# Altium integrated library Cypress PLD MAX EPLD.IntLib: 163 symbols (part 1 of 6)
Pins are listed as number, name and electrical type; pins without a type are passive.

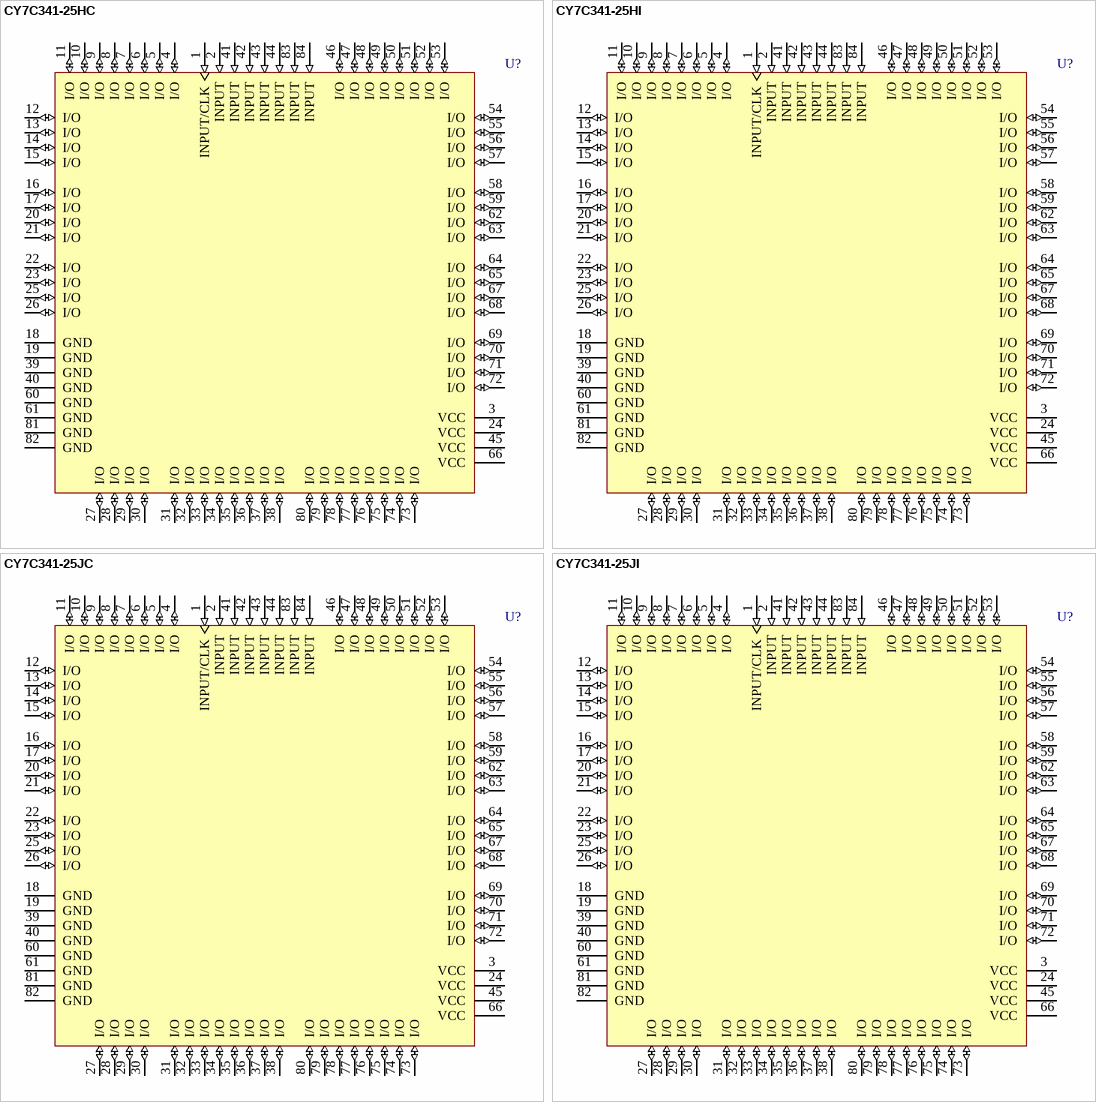
[diagram p0: symbols CY7C341-25HC to CY7C341-25JI]

## CY7C341-25HC
designator U?
192-Macrocell MAX EPLD; Published: 11-Dec-2002; LatestRevisionDate: 13-Apr-2006; LatestRevisionNote: IPC-7351 Footprint Added.; DatasheetVersion: 19-Jul-2000; PackageVersion: 8-Apr-2002; PackageReference: H84; Publisher: Altium Limited; PackageDescription: 84-Pin Window Leaded Chip Carrier 1.27 mm Pitch; ComponentLink1Description: Manufacturer Link; ComponentLink1URL: http://www.cypress.com/
footprint H84_N (Leaded Chip Carrier, 84-Leads, Body 29.2x29.2mm, Pitch 1.27mm, IPC Medium Density)
footprint H84_L (Leaded Chip Carrier, 84-Leads, Body 29.2x29.2mm, Pitch 1.27mm, IPC High Density)
footprint H84_M (Leaded Chip Carrier, 84-Leads, Body 29.2x29.2mm, Pitch 1.27mm, IPC Low Density)
3D model CY7C341-H84 (84-Pin Window Leaded Chip Carrier 1.27 mm Pitch)
pins: 1 INPUT/CLK (in), 2 INPUT (in), 3 VCC (power), 4 I/O (io), 5 I/O (io), 6 I/O (io), 7 I/O (io), 8 I/O (io), 9 I/O (io), 10 I/O (io), 11 I/O (io), 12 I/O (io), 13 I/O (io), 14 I/O (io), 15 I/O (io), 16 I/O (io), 17 I/O (io), 18 GND (power), 19 GND (power), 20 I/O (io), 21 I/O (io), 22 I/O (io), 23 I/O (io), 24 VCC (power), 25 I/O (io), 26 I/O (io), 27 I/O (io), 28 I/O (io), 29 I/O (io), 30 I/O (io), 31 I/O (io), 32 I/O (io), 33 I/O (io), 34 I/O (io), 35 I/O (io), 36 I/O (io), 37 I/O (io), 38 I/O (io), 39 GND (power), 40 GND (power), 41 INPUT (in), 42 INPUT (in), 43 INPUT (in), 44 INPUT (in), 45 VCC (power), 46 I/O (io), 47 I/O (io), 48 I/O (io), 49 I/O (io), 50 I/O (io), 51 I/O (io), 52 I/O (io), 53 I/O (io), 54 I/O (io), 55 I/O (io), 56 I/O (io), 57 I/O (io), 58 I/O (io), 59 I/O (io), 60 GND (power), 61 GND (power), 62 I/O (io), 63 I/O (io), 64 I/O (io), 65 I/O (io), 66 VCC (power), 67 I/O (io), 68 I/O (io), 69 I/O (io), 70 I/O (io), 71 I/O (io), 72 I/O (io), 73 I/O (io), 74 I/O (io), 75 I/O (io), 76 I/O (io), 77 I/O (io), 78 I/O (io), 79 I/O (io), 80 I/O (io), 81 GND (power), 82 GND (power), 83 INPUT (in), 84 INPUT (in)

## CY7C341-25HI
designator U?
192-Macrocell MAX EPLD; Published: 11-Dec-2002; LatestRevisionDate: 13-Apr-2006; LatestRevisionNote: IPC-7351 Footprint Added.; DatasheetVersion: 19-Jul-2000; PackageVersion: 8-Apr-2002; PackageReference: H84; Publisher: Altium Limited; PackageDescription: 84-Pin Window Leaded Chip Carrier 1.27 mm Pitch; ComponentLink1Description: Manufacturer Link; ComponentLink1URL: http://www.cypress.com/
footprint H84_N (Leaded Chip Carrier, 84-Leads, Body 29.2x29.2mm, Pitch 1.27mm, IPC Medium Density)
footprint H84_L (Leaded Chip Carrier, 84-Leads, Body 29.2x29.2mm, Pitch 1.27mm, IPC High Density)
footprint H84_M (Leaded Chip Carrier, 84-Leads, Body 29.2x29.2mm, Pitch 1.27mm, IPC Low Density)
3D model CY7C341-H84 (84-Pin Window Leaded Chip Carrier 1.27 mm Pitch)
pins: 1 INPUT/CLK (in), 2 INPUT (in), 3 VCC (power), 4 I/O (io), 5 I/O (io), 6 I/O (io), 7 I/O (io), 8 I/O (io), 9 I/O (io), 10 I/O (io), 11 I/O (io), 12 I/O (io), 13 I/O (io), 14 I/O (io), 15 I/O (io), 16 I/O (io), 17 I/O (io), 18 GND (power), 19 GND (power), 20 I/O (io), 21 I/O (io), 22 I/O (io), 23 I/O (io), 24 VCC (power), 25 I/O (io), 26 I/O (io), 27 I/O (io), 28 I/O (io), 29 I/O (io), 30 I/O (io), 31 I/O (io), 32 I/O (io), 33 I/O (io), 34 I/O (io), 35 I/O (io), 36 I/O (io), 37 I/O (io), 38 I/O (io), 39 GND (power), 40 GND (power), 41 INPUT (in), 42 INPUT (in), 43 INPUT (in), 44 INPUT (in), 45 VCC (power), 46 I/O (io), 47 I/O (io), 48 I/O (io), 49 I/O (io), 50 I/O (io), 51 I/O (io), 52 I/O (io), 53 I/O (io), 54 I/O (io), 55 I/O (io), 56 I/O (io), 57 I/O (io), 58 I/O (io), 59 I/O (io), 60 GND (power), 61 GND (power), 62 I/O (io), 63 I/O (io), 64 I/O (io), 65 I/O (io), 66 VCC (power), 67 I/O (io), 68 I/O (io), 69 I/O (io), 70 I/O (io), 71 I/O (io), 72 I/O (io), 73 I/O (io), 74 I/O (io), 75 I/O (io), 76 I/O (io), 77 I/O (io), 78 I/O (io), 79 I/O (io), 80 I/O (io), 81 GND (power), 82 GND (power), 83 INPUT (in), 84 INPUT (in)

## CY7C341-25JC
designator U?
192-Macrocell MAX EPLD; Published: 11-Dec-2002; LatestRevisionDate: 13-Apr-2006; LatestRevisionNote: IPC-7351 Footprint Added.; DatasheetVersion: 19-Jul-2000; PackageVersion: Mar-2001; PackageReference: J83; Publisher: Altium Limited; PackageDescription: 84-Pin Plastic Leaded Chip Carrier 1.27 mm Pitch; Code_IPC: PLCC-84; ComponentLink1Description: Manufacturer Link; ComponentLink1URL: http://www.cypress.com/
footprint J83_N (Leaded Chip Carrier, 84-Leads, Body 29.3x29.3mm, Pitch 1.27mm, IPC Medium Density)
footprint J83_L (Leaded Chip Carrier, 84-Leads, Body 29.3x29.3mm, Pitch 1.27mm, IPC High Density)
footprint J83_M (Leaded Chip Carrier, 84-Leads, Body 29.3x29.3mm, Pitch 1.27mm, IPC Low Density)
3D model CY7C341-J83 (84-Pin Plastic Leaded Chip Carrier 1.27 mm Pitch)
pins: 1 INPUT/CLK (in), 2 INPUT (in), 3 VCC (power), 4 I/O (io), 5 I/O (io), 6 I/O (io), 7 I/O (io), 8 I/O (io), 9 I/O (io), 10 I/O (io), 11 I/O (io), 12 I/O (io), 13 I/O (io), 14 I/O (io), 15 I/O (io), 16 I/O (io), 17 I/O (io), 18 GND (power), 19 GND (power), 20 I/O (io), 21 I/O (io), 22 I/O (io), 23 I/O (io), 24 VCC (power), 25 I/O (io), 26 I/O (io), 27 I/O (io), 28 I/O (io), 29 I/O (io), 30 I/O (io), 31 I/O (io), 32 I/O (io), 33 I/O (io), 34 I/O (io), 35 I/O (io), 36 I/O (io), 37 I/O (io), 38 I/O (io), 39 GND (power), 40 GND (power), 41 INPUT (in), 42 INPUT (in), 43 INPUT (in), 44 INPUT (in), 45 VCC (power), 46 I/O (io), 47 I/O (io), 48 I/O (io), 49 I/O (io), 50 I/O (io), 51 I/O (io), 52 I/O (io), 53 I/O (io), 54 I/O (io), 55 I/O (io), 56 I/O (io), 57 I/O (io), 58 I/O (io), 59 I/O (io), 60 GND (power), 61 GND (power), 62 I/O (io), 63 I/O (io), 64 I/O (io), 65 I/O (io), 66 VCC (power), 67 I/O (io), 68 I/O (io), 69 I/O (io), 70 I/O (io), 71 I/O (io), 72 I/O (io), 73 I/O (io), 74 I/O (io), 75 I/O (io), 76 I/O (io), 77 I/O (io), 78 I/O (io), 79 I/O (io), 80 I/O (io), 81 GND (power), 82 GND (power), 83 INPUT (in), 84 INPUT (in)

## CY7C341-25JI
designator U?
192-Macrocell MAX EPLD; Published: 11-Dec-2002; LatestRevisionDate: 13-Apr-2006; LatestRevisionNote: IPC-7351 Footprint Added.; DatasheetVersion: 19-Jul-2000; PackageVersion: Mar-2001; PackageReference: J83; Publisher: Altium Limited; PackageDescription: 84-Pin Plastic Leaded Chip Carrier 1.27 mm Pitch; Code_IPC: PLCC-84; ComponentLink1Description: Manufacturer Link; ComponentLink1URL: http://www.cypress.com/
footprint J83_N (Leaded Chip Carrier, 84-Leads, Body 29.3x29.3mm, Pitch 1.27mm, IPC Medium Density)
footprint J83_L (Leaded Chip Carrier, 84-Leads, Body 29.3x29.3mm, Pitch 1.27mm, IPC High Density)
footprint J83_M (Leaded Chip Carrier, 84-Leads, Body 29.3x29.3mm, Pitch 1.27mm, IPC Low Density)
3D model CY7C341-J83 (84-Pin Plastic Leaded Chip Carrier 1.27 mm Pitch)
pins: 1 INPUT/CLK (in), 2 INPUT (in), 3 VCC (power), 4 I/O (io), 5 I/O (io), 6 I/O (io), 7 I/O (io), 8 I/O (io), 9 I/O (io), 10 I/O (io), 11 I/O (io), 12 I/O (io), 13 I/O (io), 14 I/O (io), 15 I/O (io), 16 I/O (io), 17 I/O (io), 18 GND (power), 19 GND (power), 20 I/O (io), 21 I/O (io), 22 I/O (io), 23 I/O (io), 24 VCC (power), 25 I/O (io), 26 I/O (io), 27 I/O (io), 28 I/O (io), 29 I/O (io), 30 I/O (io), 31 I/O (io), 32 I/O (io), 33 I/O (io), 34 I/O (io), 35 I/O (io), 36 I/O (io), 37 I/O (io), 38 I/O (io), 39 GND (power), 40 GND (power), 41 INPUT (in), 42 INPUT (in), 43 INPUT (in), 44 INPUT (in), 45 VCC (power), 46 I/O (io), 47 I/O (io), 48 I/O (io), 49 I/O (io), 50 I/O (io), 51 I/O (io), 52 I/O (io), 53 I/O (io), 54 I/O (io), 55 I/O (io), 56 I/O (io), 57 I/O (io), 58 I/O (io), 59 I/O (io), 60 GND (power), 61 GND (power), 62 I/O (io), 63 I/O (io), 64 I/O (io), 65 I/O (io), 66 VCC (power), 67 I/O (io), 68 I/O (io), 69 I/O (io), 70 I/O (io), 71 I/O (io), 72 I/O (io), 73 I/O (io), 74 I/O (io), 75 I/O (io), 76 I/O (io), 77 I/O (io), 78 I/O (io), 79 I/O (io), 80 I/O (io), 81 GND (power), 82 GND (power), 83 INPUT (in), 84 INPUT (in)

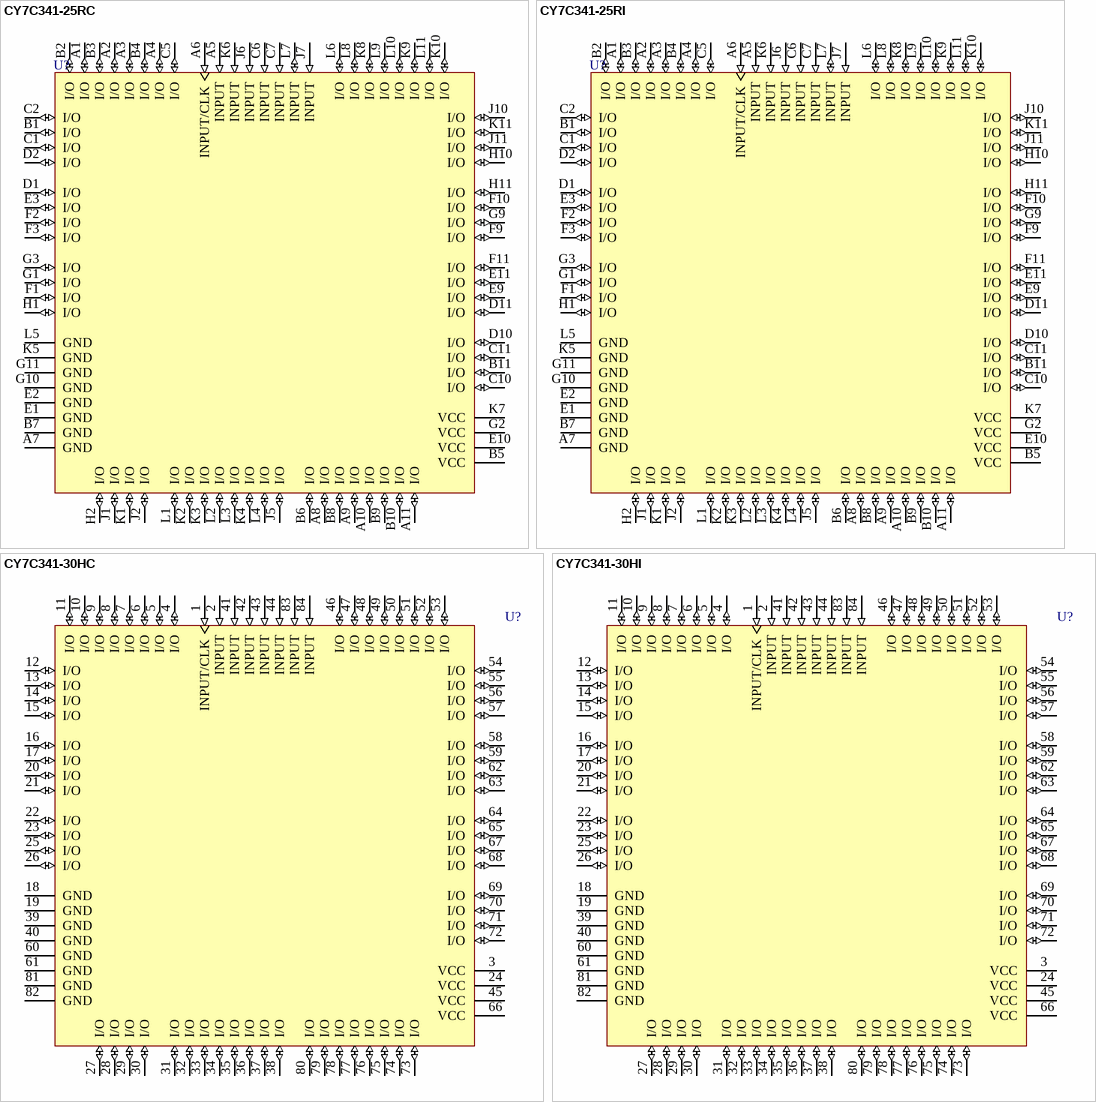
[diagram p1: symbols CY7C341-25RC to CY7C341-30HI]

## CY7C341-25RC
designator U?
192-Macrocell MAX EPLD; Published: 11-Dec-2002; LatestRevisionDate: 04-Mar-2005; LatestRevisionNote: Stylized 3D Model Added.; DatasheetVersion: 19-Jul-2000; PackageVersion: Dec-2001; PackageReference: R84; Publisher: Altium Limited; PackageDescription: 84-Pin Ceramic Window Pin Grid Array 2.54 mm Pitch; ComponentLink1Description: Manufacturer Link; ComponentLink1URL: http://www.cypress.com/
footprint R84 (PGA, 84-Leads, Body 28x28mm, Pitch 2.54mm)
3D model CY7C341-R84 (84-Pin Ceramic Window Pin Grid Array 2.54 mm Pitch)
pins: A1 I/O (io), A2 I/O (io), A3 I/O (io), A4 I/O (io), A5 INPUT (in), A6 INPUT/CLK (in), A7 GND (power), A8 I/O (io), A9 I/O (io), A10 I/O (io), A11 I/O (io), B1 I/O (io), B2 I/O (io), B3 I/O (io), B4 I/O (io), B5 VCC (power), B6 I/O (io), B7 GND (power), B8 I/O (io), B9 I/O (io), B10 I/O (io), B11 I/O (io), C1 I/O (io), C2 I/O (io), C5 I/O (io), C6 INPUT (in), C7 INPUT (in), C10 I/O (io), C11 I/O (io), D1 I/O (io), D2 I/O (io), D10 I/O (io), D11 I/O (io), E1 GND (power), E2 GND (power), E3 I/O (io), E9 I/O (io), E10 VCC (power), E11 I/O (io), F1 I/O (io), F2 I/O (io), F3 I/O (io), F9 I/O (io), F10 I/O (io), F11 I/O (io), G1 I/O (io), G2 VCC (power), G3 I/O (io), G9 I/O (io), G10 GND (power), G11 GND (power), H1 I/O (io), H2 I/O (io), H10 I/O (io), H11 I/O (io), J1 I/O (io), J2 I/O (io), J5 I/O (io), J6 INPUT (in), J7 INPUT (in), J10 I/O (io), J11 I/O (io), K1 I/O (io), K2 I/O (io), K3 I/O (io), K4 I/O (io), K5 GND (power), K6 INPUT (in), K7 VCC (power), K8 I/O (io), K9 I/O (io), K10 I/O (io), K11 I/O (io), L1 I/O (io), L2 I/O (io), L3 I/O (io), L4 I/O (io), L5 GND (power), L6 I/O (io), L7 INPUT (io), L8 I/O (io), L9 I/O (io), L10 I/O (io), L11 I/O (io)

## CY7C341-25RI
designator U?
192-Macrocell MAX EPLD; Published: 11-Dec-2002; LatestRevisionDate: 04-Mar-2005; LatestRevisionNote: Stylized 3D Model Added.; DatasheetVersion: 19-Jul-2000; PackageVersion: Dec-2001; PackageReference: R84; Publisher: Altium Limited; PackageDescription: 84-Pin Ceramic Window Pin Grid Array 2.54 mm Pitch; ComponentLink1Description: Manufacturer Link; ComponentLink1URL: http://www.cypress.com/
footprint R84 (PGA, 84-Leads, Body 28x28mm, Pitch 2.54mm)
3D model CY7C341-R84 (84-Pin Ceramic Window Pin Grid Array 2.54 mm Pitch)
pins: A1 I/O (io), A2 I/O (io), A3 I/O (io), A4 I/O (io), A5 INPUT (in), A6 INPUT/CLK (in), A7 GND (power), A8 I/O (io), A9 I/O (io), A10 I/O (io), A11 I/O (io), B1 I/O (io), B2 I/O (io), B3 I/O (io), B4 I/O (io), B5 VCC (power), B6 I/O (io), B7 GND (power), B8 I/O (io), B9 I/O (io), B10 I/O (io), B11 I/O (io), C1 I/O (io), C2 I/O (io), C5 I/O (io), C6 INPUT (in), C7 INPUT (in), C10 I/O (io), C11 I/O (io), D1 I/O (io), D2 I/O (io), D10 I/O (io), D11 I/O (io), E1 GND (power), E2 GND (power), E3 I/O (io), E9 I/O (io), E10 VCC (power), E11 I/O (io), F1 I/O (io), F2 I/O (io), F3 I/O (io), F9 I/O (io), F10 I/O (io), F11 I/O (io), G1 I/O (io), G2 VCC (power), G3 I/O (io), G9 I/O (io), G10 GND (power), G11 GND (power), H1 I/O (io), H2 I/O (io), H10 I/O (io), H11 I/O (io), J1 I/O (io), J2 I/O (io), J5 I/O (io), J6 INPUT (in), J7 INPUT (in), J10 I/O (io), J11 I/O (io), K1 I/O (io), K2 I/O (io), K3 I/O (io), K4 I/O (io), K5 GND (power), K6 INPUT (in), K7 VCC (power), K8 I/O (io), K9 I/O (io), K10 I/O (io), K11 I/O (io), L1 I/O (io), L2 I/O (io), L3 I/O (io), L4 I/O (io), L5 GND (power), L6 I/O (io), L7 INPUT (io), L8 I/O (io), L9 I/O (io), L10 I/O (io), L11 I/O (io)

## CY7C341-30HC
designator U?
192-Macrocell MAX EPLD; Published: 11-Dec-2002; LatestRevisionDate: 13-Apr-2006; LatestRevisionNote: IPC-7351 Footprint Added.; DatasheetVersion: 19-Jul-2000; PackageVersion: 8-Apr-2002; PackageReference: H84; Publisher: Altium Limited; PackageDescription: 84-Pin Window Leaded Chip Carrier 1.27 mm Pitch; ComponentLink1Description: Manufacturer Link; ComponentLink1URL: http://www.cypress.com/
footprint H84_N (Leaded Chip Carrier, 84-Leads, Body 29.2x29.2mm, Pitch 1.27mm, IPC Medium Density)
footprint H84_L (Leaded Chip Carrier, 84-Leads, Body 29.2x29.2mm, Pitch 1.27mm, IPC High Density)
footprint H84_M (Leaded Chip Carrier, 84-Leads, Body 29.2x29.2mm, Pitch 1.27mm, IPC Low Density)
3D model CY7C341-H84 (84-Pin Window Leaded Chip Carrier 1.27 mm Pitch)
pins: 1 INPUT/CLK (in), 2 INPUT (in), 3 VCC (power), 4 I/O (io), 5 I/O (io), 6 I/O (io), 7 I/O (io), 8 I/O (io), 9 I/O (io), 10 I/O (io), 11 I/O (io), 12 I/O (io), 13 I/O (io), 14 I/O (io), 15 I/O (io), 16 I/O (io), 17 I/O (io), 18 GND (power), 19 GND (power), 20 I/O (io), 21 I/O (io), 22 I/O (io), 23 I/O (io), 24 VCC (power), 25 I/O (io), 26 I/O (io), 27 I/O (io), 28 I/O (io), 29 I/O (io), 30 I/O (io), 31 I/O (io), 32 I/O (io), 33 I/O (io), 34 I/O (io), 35 I/O (io), 36 I/O (io), 37 I/O (io), 38 I/O (io), 39 GND (power), 40 GND (power), 41 INPUT (in), 42 INPUT (in), 43 INPUT (in), 44 INPUT (in), 45 VCC (power), 46 I/O (io), 47 I/O (io), 48 I/O (io), 49 I/O (io), 50 I/O (io), 51 I/O (io), 52 I/O (io), 53 I/O (io), 54 I/O (io), 55 I/O (io), 56 I/O (io), 57 I/O (io), 58 I/O (io), 59 I/O (io), 60 GND (power), 61 GND (power), 62 I/O (io), 63 I/O (io), 64 I/O (io), 65 I/O (io), 66 VCC (power), 67 I/O (io), 68 I/O (io), 69 I/O (io), 70 I/O (io), 71 I/O (io), 72 I/O (io), 73 I/O (io), 74 I/O (io), 75 I/O (io), 76 I/O (io), 77 I/O (io), 78 I/O (io), 79 I/O (io), 80 I/O (io), 81 GND (power), 82 GND (power), 83 INPUT (in), 84 INPUT (in)

## CY7C341-30HI
designator U?
192-Macrocell MAX EPLD; Published: 11-Dec-2002; LatestRevisionDate: 13-Apr-2006; LatestRevisionNote: IPC-7351 Footprint Added.; DatasheetVersion: 19-Jul-2000; PackageVersion: 8-Apr-2002; PackageReference: H84; Publisher: Altium Limited; PackageDescription: 84-Pin Window Leaded Chip Carrier 1.27 mm Pitch; ComponentLink1Description: Manufacturer Link; ComponentLink1URL: http://www.cypress.com/
footprint H84_N (Leaded Chip Carrier, 84-Leads, Body 29.2x29.2mm, Pitch 1.27mm, IPC Medium Density)
footprint H84_L (Leaded Chip Carrier, 84-Leads, Body 29.2x29.2mm, Pitch 1.27mm, IPC High Density)
footprint H84_M (Leaded Chip Carrier, 84-Leads, Body 29.2x29.2mm, Pitch 1.27mm, IPC Low Density)
3D model CY7C341-H84 (84-Pin Window Leaded Chip Carrier 1.27 mm Pitch)
pins: 1 INPUT/CLK (in), 2 INPUT (in), 3 VCC (power), 4 I/O (io), 5 I/O (io), 6 I/O (io), 7 I/O (io), 8 I/O (io), 9 I/O (io), 10 I/O (io), 11 I/O (io), 12 I/O (io), 13 I/O (io), 14 I/O (io), 15 I/O (io), 16 I/O (io), 17 I/O (io), 18 GND (power), 19 GND (power), 20 I/O (io), 21 I/O (io), 22 I/O (io), 23 I/O (io), 24 VCC (power), 25 I/O (io), 26 I/O (io), 27 I/O (io), 28 I/O (io), 29 I/O (io), 30 I/O (io), 31 I/O (io), 32 I/O (io), 33 I/O (io), 34 I/O (io), 35 I/O (io), 36 I/O (io), 37 I/O (io), 38 I/O (io), 39 GND (power), 40 GND (power), 41 INPUT (in), 42 INPUT (in), 43 INPUT (in), 44 INPUT (in), 45 VCC (power), 46 I/O (io), 47 I/O (io), 48 I/O (io), 49 I/O (io), 50 I/O (io), 51 I/O (io), 52 I/O (io), 53 I/O (io), 54 I/O (io), 55 I/O (io), 56 I/O (io), 57 I/O (io), 58 I/O (io), 59 I/O (io), 60 GND (power), 61 GND (power), 62 I/O (io), 63 I/O (io), 64 I/O (io), 65 I/O (io), 66 VCC (power), 67 I/O (io), 68 I/O (io), 69 I/O (io), 70 I/O (io), 71 I/O (io), 72 I/O (io), 73 I/O (io), 74 I/O (io), 75 I/O (io), 76 I/O (io), 77 I/O (io), 78 I/O (io), 79 I/O (io), 80 I/O (io), 81 GND (power), 82 GND (power), 83 INPUT (in), 84 INPUT (in)

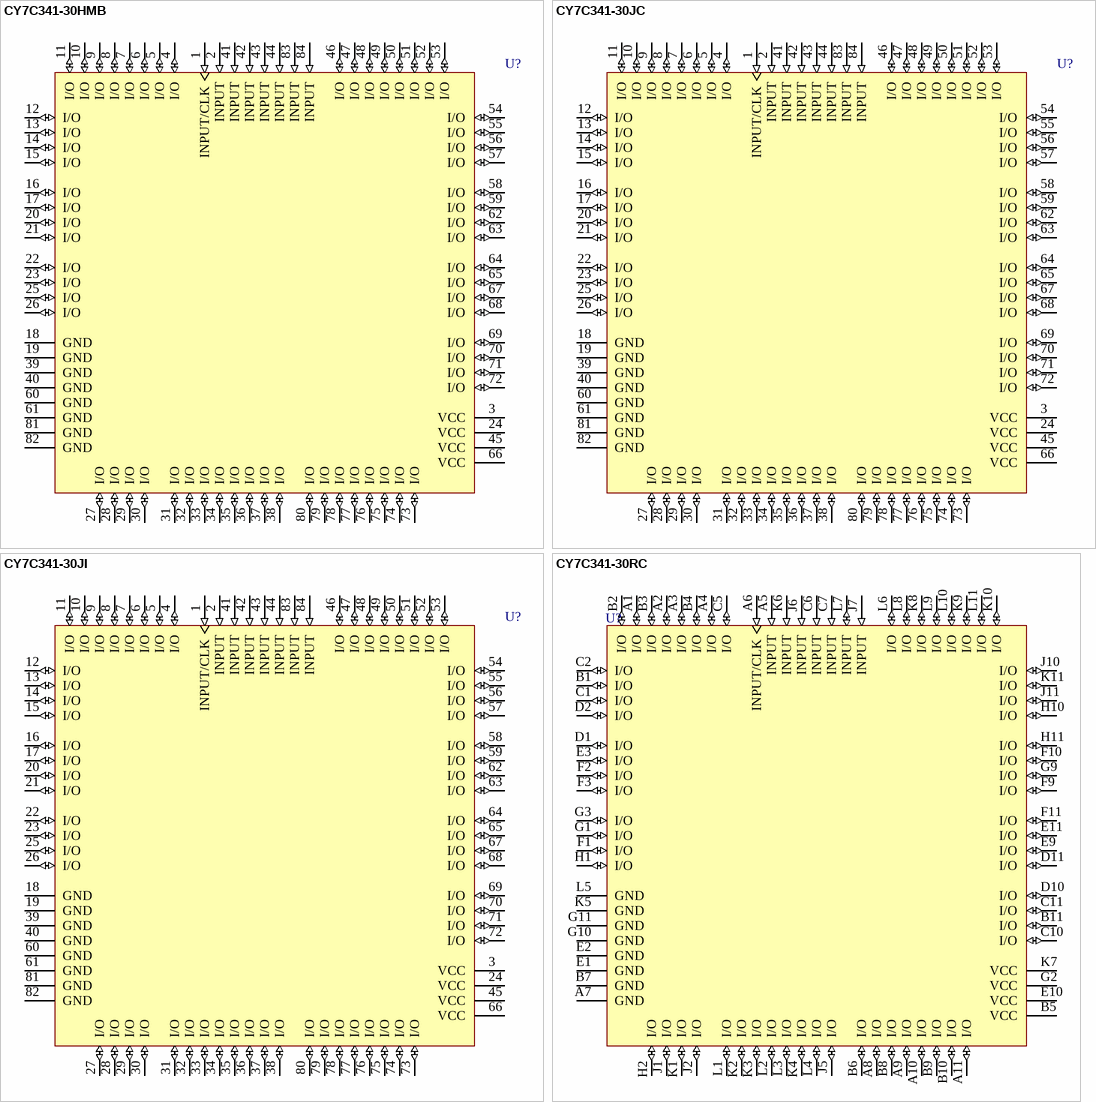
[diagram p2: symbols CY7C341-30HMB to CY7C341-30RC]

## CY7C341-30HMB
designator U?
192-Macrocell MAX EPLD; Published: 11-Dec-2002; LatestRevisionDate: 13-Apr-2006; LatestRevisionNote: IPC-7351 Footprint Added.; DatasheetVersion: 19-Jul-2000; PackageVersion: 8-Apr-2002; PackageReference: H84; Publisher: Altium Limited; PackageDescription: 84-Pin Window Leaded Chip Carrier 1.27 mm Pitch; ComponentLink1Description: Manufacturer Link; ComponentLink1URL: http://www.cypress.com/
footprint H84_N (Leaded Chip Carrier, 84-Leads, Body 29.2x29.2mm, Pitch 1.27mm, IPC Medium Density)
footprint H84_L (Leaded Chip Carrier, 84-Leads, Body 29.2x29.2mm, Pitch 1.27mm, IPC High Density)
footprint H84_M (Leaded Chip Carrier, 84-Leads, Body 29.2x29.2mm, Pitch 1.27mm, IPC Low Density)
3D model CY7C341-H84 (84-Pin Window Leaded Chip Carrier 1.27 mm Pitch)
pins: 1 INPUT/CLK (in), 2 INPUT (in), 3 VCC (power), 4 I/O (io), 5 I/O (io), 6 I/O (io), 7 I/O (io), 8 I/O (io), 9 I/O (io), 10 I/O (io), 11 I/O (io), 12 I/O (io), 13 I/O (io), 14 I/O (io), 15 I/O (io), 16 I/O (io), 17 I/O (io), 18 GND (power), 19 GND (power), 20 I/O (io), 21 I/O (io), 22 I/O (io), 23 I/O (io), 24 VCC (power), 25 I/O (io), 26 I/O (io), 27 I/O (io), 28 I/O (io), 29 I/O (io), 30 I/O (io), 31 I/O (io), 32 I/O (io), 33 I/O (io), 34 I/O (io), 35 I/O (io), 36 I/O (io), 37 I/O (io), 38 I/O (io), 39 GND (power), 40 GND (power), 41 INPUT (in), 42 INPUT (in), 43 INPUT (in), 44 INPUT (in), 45 VCC (power), 46 I/O (io), 47 I/O (io), 48 I/O (io), 49 I/O (io), 50 I/O (io), 51 I/O (io), 52 I/O (io), 53 I/O (io), 54 I/O (io), 55 I/O (io), 56 I/O (io), 57 I/O (io), 58 I/O (io), 59 I/O (io), 60 GND (power), 61 GND (power), 62 I/O (io), 63 I/O (io), 64 I/O (io), 65 I/O (io), 66 VCC (power), 67 I/O (io), 68 I/O (io), 69 I/O (io), 70 I/O (io), 71 I/O (io), 72 I/O (io), 73 I/O (io), 74 I/O (io), 75 I/O (io), 76 I/O (io), 77 I/O (io), 78 I/O (io), 79 I/O (io), 80 I/O (io), 81 GND (power), 82 GND (power), 83 INPUT (in), 84 INPUT (in)

## CY7C341-30JC
designator U?
192-Macrocell MAX EPLD; Published: 11-Dec-2002; LatestRevisionDate: 13-Apr-2006; LatestRevisionNote: IPC-7351 Footprint Added.; DatasheetVersion: 19-Jul-2000; PackageVersion: Mar-2001; PackageReference: J83; Publisher: Altium Limited; PackageDescription: 84-Pin Plastic Leaded Chip Carrier 1.27 mm Pitch; Code_IPC: PLCC-84; ComponentLink1Description: Manufacturer Link; ComponentLink1URL: http://www.cypress.com/
footprint J83_N (Leaded Chip Carrier, 84-Leads, Body 29.3x29.3mm, Pitch 1.27mm, IPC Medium Density)
footprint J83_L (Leaded Chip Carrier, 84-Leads, Body 29.3x29.3mm, Pitch 1.27mm, IPC High Density)
footprint J83_M (Leaded Chip Carrier, 84-Leads, Body 29.3x29.3mm, Pitch 1.27mm, IPC Low Density)
3D model CY7C341-J83 (84-Pin Plastic Leaded Chip Carrier 1.27 mm Pitch)
pins: 1 INPUT/CLK (in), 2 INPUT (in), 3 VCC (power), 4 I/O (io), 5 I/O (io), 6 I/O (io), 7 I/O (io), 8 I/O (io), 9 I/O (io), 10 I/O (io), 11 I/O (io), 12 I/O (io), 13 I/O (io), 14 I/O (io), 15 I/O (io), 16 I/O (io), 17 I/O (io), 18 GND (power), 19 GND (power), 20 I/O (io), 21 I/O (io), 22 I/O (io), 23 I/O (io), 24 VCC (power), 25 I/O (io), 26 I/O (io), 27 I/O (io), 28 I/O (io), 29 I/O (io), 30 I/O (io), 31 I/O (io), 32 I/O (io), 33 I/O (io), 34 I/O (io), 35 I/O (io), 36 I/O (io), 37 I/O (io), 38 I/O (io), 39 GND (power), 40 GND (power), 41 INPUT (in), 42 INPUT (in), 43 INPUT (in), 44 INPUT (in), 45 VCC (power), 46 I/O (io), 47 I/O (io), 48 I/O (io), 49 I/O (io), 50 I/O (io), 51 I/O (io), 52 I/O (io), 53 I/O (io), 54 I/O (io), 55 I/O (io), 56 I/O (io), 57 I/O (io), 58 I/O (io), 59 I/O (io), 60 GND (power), 61 GND (power), 62 I/O (io), 63 I/O (io), 64 I/O (io), 65 I/O (io), 66 VCC (power), 67 I/O (io), 68 I/O (io), 69 I/O (io), 70 I/O (io), 71 I/O (io), 72 I/O (io), 73 I/O (io), 74 I/O (io), 75 I/O (io), 76 I/O (io), 77 I/O (io), 78 I/O (io), 79 I/O (io), 80 I/O (io), 81 GND (power), 82 GND (power), 83 INPUT (in), 84 INPUT (in)

## CY7C341-30JI
designator U?
192-Macrocell MAX EPLD; Published: 11-Dec-2002; LatestRevisionDate: 13-Apr-2006; LatestRevisionNote: IPC-7351 Footprint Added.; DatasheetVersion: 19-Jul-2000; PackageVersion: Mar-2001; PackageReference: J83; Publisher: Altium Limited; PackageDescription: 84-Pin Plastic Leaded Chip Carrier 1.27 mm Pitch; Code_IPC: PLCC-84; ComponentLink1Description: Manufacturer Link; ComponentLink1URL: http://www.cypress.com/
footprint J83_N (Leaded Chip Carrier, 84-Leads, Body 29.3x29.3mm, Pitch 1.27mm, IPC Medium Density)
footprint J83_L (Leaded Chip Carrier, 84-Leads, Body 29.3x29.3mm, Pitch 1.27mm, IPC High Density)
footprint J83_M (Leaded Chip Carrier, 84-Leads, Body 29.3x29.3mm, Pitch 1.27mm, IPC Low Density)
3D model CY7C341-J83 (84-Pin Plastic Leaded Chip Carrier 1.27 mm Pitch)
pins: 1 INPUT/CLK (in), 2 INPUT (in), 3 VCC (power), 4 I/O (io), 5 I/O (io), 6 I/O (io), 7 I/O (io), 8 I/O (io), 9 I/O (io), 10 I/O (io), 11 I/O (io), 12 I/O (io), 13 I/O (io), 14 I/O (io), 15 I/O (io), 16 I/O (io), 17 I/O (io), 18 GND (power), 19 GND (power), 20 I/O (io), 21 I/O (io), 22 I/O (io), 23 I/O (io), 24 VCC (power), 25 I/O (io), 26 I/O (io), 27 I/O (io), 28 I/O (io), 29 I/O (io), 30 I/O (io), 31 I/O (io), 32 I/O (io), 33 I/O (io), 34 I/O (io), 35 I/O (io), 36 I/O (io), 37 I/O (io), 38 I/O (io), 39 GND (power), 40 GND (power), 41 INPUT (in), 42 INPUT (in), 43 INPUT (in), 44 INPUT (in), 45 VCC (power), 46 I/O (io), 47 I/O (io), 48 I/O (io), 49 I/O (io), 50 I/O (io), 51 I/O (io), 52 I/O (io), 53 I/O (io), 54 I/O (io), 55 I/O (io), 56 I/O (io), 57 I/O (io), 58 I/O (io), 59 I/O (io), 60 GND (power), 61 GND (power), 62 I/O (io), 63 I/O (io), 64 I/O (io), 65 I/O (io), 66 VCC (power), 67 I/O (io), 68 I/O (io), 69 I/O (io), 70 I/O (io), 71 I/O (io), 72 I/O (io), 73 I/O (io), 74 I/O (io), 75 I/O (io), 76 I/O (io), 77 I/O (io), 78 I/O (io), 79 I/O (io), 80 I/O (io), 81 GND (power), 82 GND (power), 83 INPUT (in), 84 INPUT (in)

## CY7C341-30RC
designator U?
192-Macrocell MAX EPLD; Published: 11-Dec-2002; LatestRevisionDate: 04-Mar-2005; LatestRevisionNote: Stylized 3D Model Added.; DatasheetVersion: 19-Jul-2000; PackageVersion: Dec-2001; PackageReference: R84; Publisher: Altium Limited; PackageDescription: 84-Pin Ceramic Window Pin Grid Array 2.54 mm Pitch; ComponentLink1Description: Manufacturer Link; ComponentLink1URL: http://www.cypress.com/
footprint R84 (PGA, 84-Leads, Body 28x28mm, Pitch 2.54mm)
3D model CY7C341-R84 (84-Pin Ceramic Window Pin Grid Array 2.54 mm Pitch)
pins: A1 I/O (io), A2 I/O (io), A3 I/O (io), A4 I/O (io), A5 INPUT (in), A6 INPUT/CLK (in), A7 GND (power), A8 I/O (io), A9 I/O (io), A10 I/O (io), A11 I/O (io), B1 I/O (io), B2 I/O (io), B3 I/O (io), B4 I/O (io), B5 VCC (power), B6 I/O (io), B7 GND (power), B8 I/O (io), B9 I/O (io), B10 I/O (io), B11 I/O (io), C1 I/O (io), C2 I/O (io), C5 I/O (io), C6 INPUT (in), C7 INPUT (in), C10 I/O (io), C11 I/O (io), D1 I/O (io), D2 I/O (io), D10 I/O (io), D11 I/O (io), E1 GND (power), E2 GND (power), E3 I/O (io), E9 I/O (io), E10 VCC (power), E11 I/O (io), F1 I/O (io), F2 I/O (io), F3 I/O (io), F9 I/O (io), F10 I/O (io), F11 I/O (io), G1 I/O (io), G2 VCC (power), G3 I/O (io), G9 I/O (io), G10 GND (power), G11 GND (power), H1 I/O (io), H2 I/O (io), H10 I/O (io), H11 I/O (io), J1 I/O (io), J2 I/O (io), J5 I/O (io), J6 INPUT (in), J7 INPUT (in), J10 I/O (io), J11 I/O (io), K1 I/O (io), K2 I/O (io), K3 I/O (io), K4 I/O (io), K5 GND (power), K6 INPUT (in), K7 VCC (power), K8 I/O (io), K9 I/O (io), K10 I/O (io), K11 I/O (io), L1 I/O (io), L2 I/O (io), L3 I/O (io), L4 I/O (io), L5 GND (power), L6 I/O (io), L7 INPUT (io), L8 I/O (io), L9 I/O (io), L10 I/O (io), L11 I/O (io)

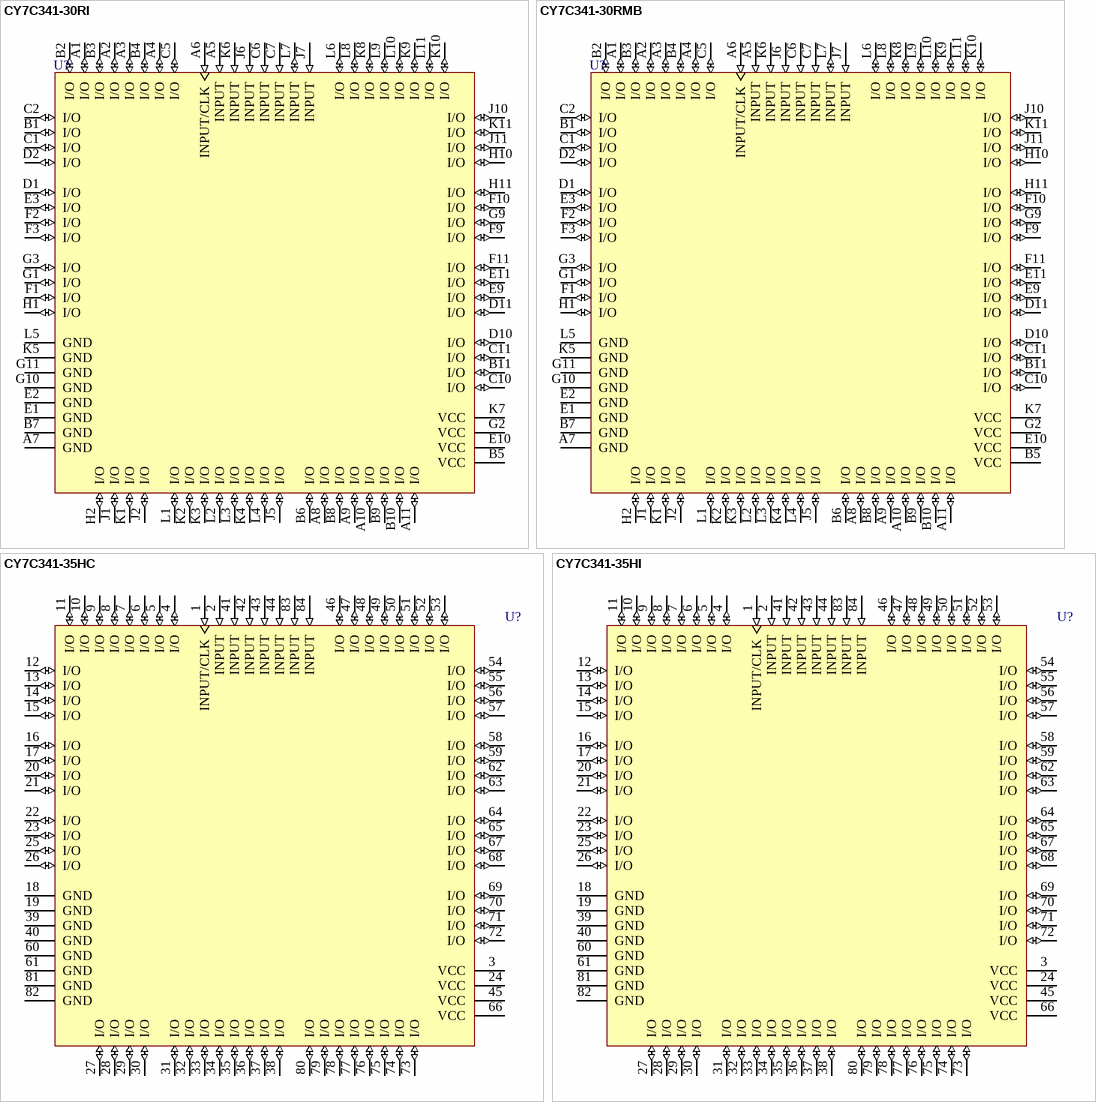
[diagram p3: symbols CY7C341-30RI to CY7C341-35HI]

## CY7C341-30RI
designator U?
192-Macrocell MAX EPLD; Published: 11-Dec-2002; LatestRevisionDate: 04-Mar-2005; LatestRevisionNote: Stylized 3D Model Added.; DatasheetVersion: 19-Jul-2000; PackageVersion: Dec-2001; PackageReference: R84; Publisher: Altium Limited; PackageDescription: 84-Pin Ceramic Window Pin Grid Array 2.54 mm Pitch; ComponentLink1Description: Manufacturer Link; ComponentLink1URL: http://www.cypress.com/
footprint R84 (PGA, 84-Leads, Body 28x28mm, Pitch 2.54mm)
3D model CY7C341-R84 (84-Pin Ceramic Window Pin Grid Array 2.54 mm Pitch)
pins: A1 I/O (io), A2 I/O (io), A3 I/O (io), A4 I/O (io), A5 INPUT (in), A6 INPUT/CLK (in), A7 GND (power), A8 I/O (io), A9 I/O (io), A10 I/O (io), A11 I/O (io), B1 I/O (io), B2 I/O (io), B3 I/O (io), B4 I/O (io), B5 VCC (power), B6 I/O (io), B7 GND (power), B8 I/O (io), B9 I/O (io), B10 I/O (io), B11 I/O (io), C1 I/O (io), C2 I/O (io), C5 I/O (io), C6 INPUT (in), C7 INPUT (in), C10 I/O (io), C11 I/O (io), D1 I/O (io), D2 I/O (io), D10 I/O (io), D11 I/O (io), E1 GND (power), E2 GND (power), E3 I/O (io), E9 I/O (io), E10 VCC (power), E11 I/O (io), F1 I/O (io), F2 I/O (io), F3 I/O (io), F9 I/O (io), F10 I/O (io), F11 I/O (io), G1 I/O (io), G2 VCC (power), G3 I/O (io), G9 I/O (io), G10 GND (power), G11 GND (power), H1 I/O (io), H2 I/O (io), H10 I/O (io), H11 I/O (io), J1 I/O (io), J2 I/O (io), J5 I/O (io), J6 INPUT (in), J7 INPUT (in), J10 I/O (io), J11 I/O (io), K1 I/O (io), K2 I/O (io), K3 I/O (io), K4 I/O (io), K5 GND (power), K6 INPUT (in), K7 VCC (power), K8 I/O (io), K9 I/O (io), K10 I/O (io), K11 I/O (io), L1 I/O (io), L2 I/O (io), L3 I/O (io), L4 I/O (io), L5 GND (power), L6 I/O (io), L7 INPUT (io), L8 I/O (io), L9 I/O (io), L10 I/O (io), L11 I/O (io)

## CY7C341-30RMB
designator U?
192-Macrocell MAX EPLD; Published: 11-Dec-2002; LatestRevisionDate: 04-Mar-2005; LatestRevisionNote: Stylized 3D Model Added.; DatasheetVersion: 19-Jul-2000; PackageVersion: Dec-2001; PackageReference: R84; Publisher: Altium Limited; PackageDescription: 84-Pin Ceramic Window Pin Grid Array 2.54 mm Pitch; ComponentLink1Description: Manufacturer Link; ComponentLink1URL: http://www.cypress.com/
footprint R84 (PGA, 84-Leads, Body 28x28mm, Pitch 2.54mm)
3D model CY7C341-R84 (84-Pin Ceramic Window Pin Grid Array 2.54 mm Pitch)
pins: A1 I/O (io), A2 I/O (io), A3 I/O (io), A4 I/O (io), A5 INPUT (in), A6 INPUT/CLK (in), A7 GND (power), A8 I/O (io), A9 I/O (io), A10 I/O (io), A11 I/O (io), B1 I/O (io), B2 I/O (io), B3 I/O (io), B4 I/O (io), B5 VCC (power), B6 I/O (io), B7 GND (power), B8 I/O (io), B9 I/O (io), B10 I/O (io), B11 I/O (io), C1 I/O (io), C2 I/O (io), C5 I/O (io), C6 INPUT (in), C7 INPUT (in), C10 I/O (io), C11 I/O (io), D1 I/O (io), D2 I/O (io), D10 I/O (io), D11 I/O (io), E1 GND (power), E2 GND (power), E3 I/O (io), E9 I/O (io), E10 VCC (power), E11 I/O (io), F1 I/O (io), F2 I/O (io), F3 I/O (io), F9 I/O (io), F10 I/O (io), F11 I/O (io), G1 I/O (io), G2 VCC (power), G3 I/O (io), G9 I/O (io), G10 GND (power), G11 GND (power), H1 I/O (io), H2 I/O (io), H10 I/O (io), H11 I/O (io), J1 I/O (io), J2 I/O (io), J5 I/O (io), J6 INPUT (in), J7 INPUT (in), J10 I/O (io), J11 I/O (io), K1 I/O (io), K2 I/O (io), K3 I/O (io), K4 I/O (io), K5 GND (power), K6 INPUT (in), K7 VCC (power), K8 I/O (io), K9 I/O (io), K10 I/O (io), K11 I/O (io), L1 I/O (io), L2 I/O (io), L3 I/O (io), L4 I/O (io), L5 GND (power), L6 I/O (io), L7 INPUT (io), L8 I/O (io), L9 I/O (io), L10 I/O (io), L11 I/O (io)

## CY7C341-35HC
designator U?
192-Macrocell MAX EPLD; Published: 11-Dec-2002; LatestRevisionDate: 13-Apr-2006; LatestRevisionNote: IPC-7351 Footprint Added.; DatasheetVersion: 19-Jul-2000; PackageVersion: 8-Apr-2002; PackageReference: H84; Publisher: Altium Limited; PackageDescription: 84-Pin Window Leaded Chip Carrier 1.27 mm Pitch; ComponentLink1Description: Manufacturer Link; ComponentLink1URL: http://www.cypress.com/
footprint H84_N (Leaded Chip Carrier, 84-Leads, Body 29.2x29.2mm, Pitch 1.27mm, IPC Medium Density)
footprint H84_L (Leaded Chip Carrier, 84-Leads, Body 29.2x29.2mm, Pitch 1.27mm, IPC High Density)
footprint H84_M (Leaded Chip Carrier, 84-Leads, Body 29.2x29.2mm, Pitch 1.27mm, IPC Low Density)
3D model CY7C341-H84 (84-Pin Window Leaded Chip Carrier 1.27 mm Pitch)
pins: 1 INPUT/CLK (in), 2 INPUT (in), 3 VCC (power), 4 I/O (io), 5 I/O (io), 6 I/O (io), 7 I/O (io), 8 I/O (io), 9 I/O (io), 10 I/O (io), 11 I/O (io), 12 I/O (io), 13 I/O (io), 14 I/O (io), 15 I/O (io), 16 I/O (io), 17 I/O (io), 18 GND (power), 19 GND (power), 20 I/O (io), 21 I/O (io), 22 I/O (io), 23 I/O (io), 24 VCC (power), 25 I/O (io), 26 I/O (io), 27 I/O (io), 28 I/O (io), 29 I/O (io), 30 I/O (io), 31 I/O (io), 32 I/O (io), 33 I/O (io), 34 I/O (io), 35 I/O (io), 36 I/O (io), 37 I/O (io), 38 I/O (io), 39 GND (power), 40 GND (power), 41 INPUT (in), 42 INPUT (in), 43 INPUT (in), 44 INPUT (in), 45 VCC (power), 46 I/O (io), 47 I/O (io), 48 I/O (io), 49 I/O (io), 50 I/O (io), 51 I/O (io), 52 I/O (io), 53 I/O (io), 54 I/O (io), 55 I/O (io), 56 I/O (io), 57 I/O (io), 58 I/O (io), 59 I/O (io), 60 GND (power), 61 GND (power), 62 I/O (io), 63 I/O (io), 64 I/O (io), 65 I/O (io), 66 VCC (power), 67 I/O (io), 68 I/O (io), 69 I/O (io), 70 I/O (io), 71 I/O (io), 72 I/O (io), 73 I/O (io), 74 I/O (io), 75 I/O (io), 76 I/O (io), 77 I/O (io), 78 I/O (io), 79 I/O (io), 80 I/O (io), 81 GND (power), 82 GND (power), 83 INPUT (in), 84 INPUT (in)

## CY7C341-35HI
designator U?
192-Macrocell MAX EPLD; Published: 11-Dec-2002; LatestRevisionDate: 13-Apr-2006; LatestRevisionNote: IPC-7351 Footprint Added.; DatasheetVersion: 19-Jul-2000; PackageVersion: 8-Apr-2002; PackageReference: H84; Publisher: Altium Limited; PackageDescription: 84-Pin Window Leaded Chip Carrier 1.27 mm Pitch; ComponentLink1Description: Manufacturer Link; ComponentLink1URL: http://www.cypress.com/
footprint H84_N (Leaded Chip Carrier, 84-Leads, Body 29.2x29.2mm, Pitch 1.27mm, IPC Medium Density)
footprint H84_L (Leaded Chip Carrier, 84-Leads, Body 29.2x29.2mm, Pitch 1.27mm, IPC High Density)
footprint H84_M (Leaded Chip Carrier, 84-Leads, Body 29.2x29.2mm, Pitch 1.27mm, IPC Low Density)
3D model CY7C341-H84 (84-Pin Window Leaded Chip Carrier 1.27 mm Pitch)
pins: 1 INPUT/CLK (in), 2 INPUT (in), 3 VCC (power), 4 I/O (io), 5 I/O (io), 6 I/O (io), 7 I/O (io), 8 I/O (io), 9 I/O (io), 10 I/O (io), 11 I/O (io), 12 I/O (io), 13 I/O (io), 14 I/O (io), 15 I/O (io), 16 I/O (io), 17 I/O (io), 18 GND (power), 19 GND (power), 20 I/O (io), 21 I/O (io), 22 I/O (io), 23 I/O (io), 24 VCC (power), 25 I/O (io), 26 I/O (io), 27 I/O (io), 28 I/O (io), 29 I/O (io), 30 I/O (io), 31 I/O (io), 32 I/O (io), 33 I/O (io), 34 I/O (io), 35 I/O (io), 36 I/O (io), 37 I/O (io), 38 I/O (io), 39 GND (power), 40 GND (power), 41 INPUT (in), 42 INPUT (in), 43 INPUT (in), 44 INPUT (in), 45 VCC (power), 46 I/O (io), 47 I/O (io), 48 I/O (io), 49 I/O (io), 50 I/O (io), 51 I/O (io), 52 I/O (io), 53 I/O (io), 54 I/O (io), 55 I/O (io), 56 I/O (io), 57 I/O (io), 58 I/O (io), 59 I/O (io), 60 GND (power), 61 GND (power), 62 I/O (io), 63 I/O (io), 64 I/O (io), 65 I/O (io), 66 VCC (power), 67 I/O (io), 68 I/O (io), 69 I/O (io), 70 I/O (io), 71 I/O (io), 72 I/O (io), 73 I/O (io), 74 I/O (io), 75 I/O (io), 76 I/O (io), 77 I/O (io), 78 I/O (io), 79 I/O (io), 80 I/O (io), 81 GND (power), 82 GND (power), 83 INPUT (in), 84 INPUT (in)

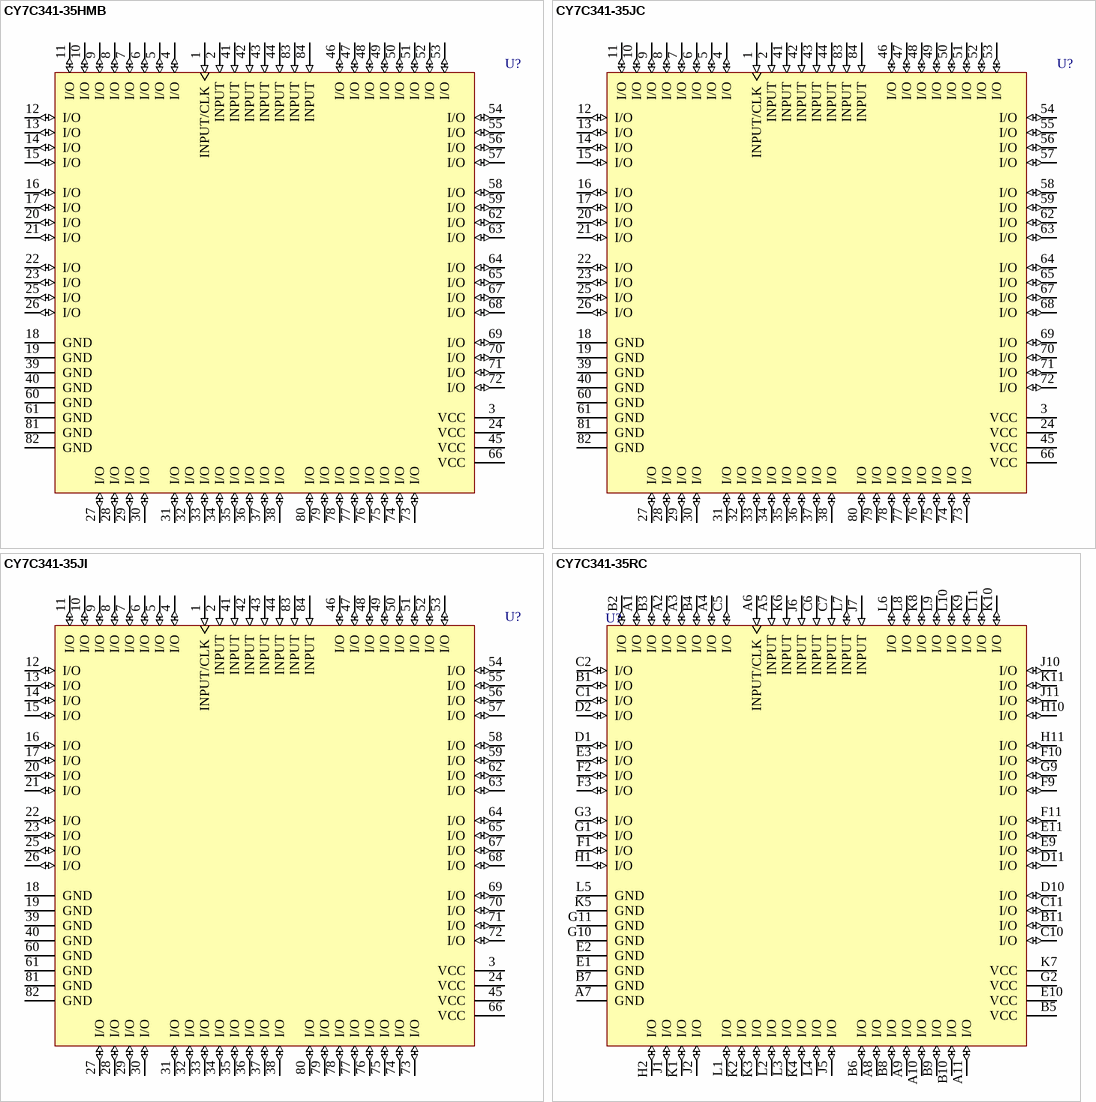
[diagram p4: symbols CY7C341-35HMB to CY7C341-35RC]

## CY7C341-35HMB
designator U?
192-Macrocell MAX EPLD; Published: 11-Dec-2002; LatestRevisionDate: 13-Apr-2006; LatestRevisionNote: IPC-7351 Footprint Added.; DatasheetVersion: 19-Jul-2000; PackageVersion: 8-Apr-2002; PackageReference: H84; Publisher: Altium Limited; PackageDescription: 84-Pin Window Leaded Chip Carrier 1.27 mm Pitch; ComponentLink1Description: Manufacturer Link; ComponentLink1URL: http://www.cypress.com/
footprint H84_N (Leaded Chip Carrier, 84-Leads, Body 29.2x29.2mm, Pitch 1.27mm, IPC Medium Density)
footprint H84_L (Leaded Chip Carrier, 84-Leads, Body 29.2x29.2mm, Pitch 1.27mm, IPC High Density)
footprint H84_M (Leaded Chip Carrier, 84-Leads, Body 29.2x29.2mm, Pitch 1.27mm, IPC Low Density)
3D model CY7C341-H84 (84-Pin Window Leaded Chip Carrier 1.27 mm Pitch)
pins: 1 INPUT/CLK (in), 2 INPUT (in), 3 VCC (power), 4 I/O (io), 5 I/O (io), 6 I/O (io), 7 I/O (io), 8 I/O (io), 9 I/O (io), 10 I/O (io), 11 I/O (io), 12 I/O (io), 13 I/O (io), 14 I/O (io), 15 I/O (io), 16 I/O (io), 17 I/O (io), 18 GND (power), 19 GND (power), 20 I/O (io), 21 I/O (io), 22 I/O (io), 23 I/O (io), 24 VCC (power), 25 I/O (io), 26 I/O (io), 27 I/O (io), 28 I/O (io), 29 I/O (io), 30 I/O (io), 31 I/O (io), 32 I/O (io), 33 I/O (io), 34 I/O (io), 35 I/O (io), 36 I/O (io), 37 I/O (io), 38 I/O (io), 39 GND (power), 40 GND (power), 41 INPUT (in), 42 INPUT (in), 43 INPUT (in), 44 INPUT (in), 45 VCC (power), 46 I/O (io), 47 I/O (io), 48 I/O (io), 49 I/O (io), 50 I/O (io), 51 I/O (io), 52 I/O (io), 53 I/O (io), 54 I/O (io), 55 I/O (io), 56 I/O (io), 57 I/O (io), 58 I/O (io), 59 I/O (io), 60 GND (power), 61 GND (power), 62 I/O (io), 63 I/O (io), 64 I/O (io), 65 I/O (io), 66 VCC (power), 67 I/O (io), 68 I/O (io), 69 I/O (io), 70 I/O (io), 71 I/O (io), 72 I/O (io), 73 I/O (io), 74 I/O (io), 75 I/O (io), 76 I/O (io), 77 I/O (io), 78 I/O (io), 79 I/O (io), 80 I/O (io), 81 GND (power), 82 GND (power), 83 INPUT (in), 84 INPUT (in)

## CY7C341-35JC
designator U?
192-Macrocell MAX EPLD; Published: 11-Dec-2002; LatestRevisionDate: 13-Apr-2006; LatestRevisionNote: IPC-7351 Footprint Added.; DatasheetVersion: 19-Jul-2000; PackageVersion: Mar-2001; PackageReference: J83; Publisher: Altium Limited; PackageDescription: 84-Pin Plastic Leaded Chip Carrier 1.27 mm Pitch; Code_IPC: PLCC-84; ComponentLink1Description: Manufacturer Link; ComponentLink1URL: http://www.cypress.com/
footprint J83_N (Leaded Chip Carrier, 84-Leads, Body 29.3x29.3mm, Pitch 1.27mm, IPC Medium Density)
footprint J83_L (Leaded Chip Carrier, 84-Leads, Body 29.3x29.3mm, Pitch 1.27mm, IPC High Density)
footprint J83_M (Leaded Chip Carrier, 84-Leads, Body 29.3x29.3mm, Pitch 1.27mm, IPC Low Density)
3D model CY7C341-J83 (84-Pin Plastic Leaded Chip Carrier 1.27 mm Pitch)
pins: 1 INPUT/CLK (in), 2 INPUT (in), 3 VCC (power), 4 I/O (io), 5 I/O (io), 6 I/O (io), 7 I/O (io), 8 I/O (io), 9 I/O (io), 10 I/O (io), 11 I/O (io), 12 I/O (io), 13 I/O (io), 14 I/O (io), 15 I/O (io), 16 I/O (io), 17 I/O (io), 18 GND (power), 19 GND (power), 20 I/O (io), 21 I/O (io), 22 I/O (io), 23 I/O (io), 24 VCC (power), 25 I/O (io), 26 I/O (io), 27 I/O (io), 28 I/O (io), 29 I/O (io), 30 I/O (io), 31 I/O (io), 32 I/O (io), 33 I/O (io), 34 I/O (io), 35 I/O (io), 36 I/O (io), 37 I/O (io), 38 I/O (io), 39 GND (power), 40 GND (power), 41 INPUT (in), 42 INPUT (in), 43 INPUT (in), 44 INPUT (in), 45 VCC (power), 46 I/O (io), 47 I/O (io), 48 I/O (io), 49 I/O (io), 50 I/O (io), 51 I/O (io), 52 I/O (io), 53 I/O (io), 54 I/O (io), 55 I/O (io), 56 I/O (io), 57 I/O (io), 58 I/O (io), 59 I/O (io), 60 GND (power), 61 GND (power), 62 I/O (io), 63 I/O (io), 64 I/O (io), 65 I/O (io), 66 VCC (power), 67 I/O (io), 68 I/O (io), 69 I/O (io), 70 I/O (io), 71 I/O (io), 72 I/O (io), 73 I/O (io), 74 I/O (io), 75 I/O (io), 76 I/O (io), 77 I/O (io), 78 I/O (io), 79 I/O (io), 80 I/O (io), 81 GND (power), 82 GND (power), 83 INPUT (in), 84 INPUT (in)

## CY7C341-35JI
designator U?
192-Macrocell MAX EPLD; Published: 11-Dec-2002; LatestRevisionDate: 13-Apr-2006; LatestRevisionNote: IPC-7351 Footprint Added.; DatasheetVersion: 19-Jul-2000; PackageVersion: Mar-2001; PackageReference: J83; Publisher: Altium Limited; PackageDescription: 84-Pin Plastic Leaded Chip Carrier 1.27 mm Pitch; Code_IPC: PLCC-84; ComponentLink1Description: Manufacturer Link; ComponentLink1URL: http://www.cypress.com/
footprint J83_N (Leaded Chip Carrier, 84-Leads, Body 29.3x29.3mm, Pitch 1.27mm, IPC Medium Density)
footprint J83_L (Leaded Chip Carrier, 84-Leads, Body 29.3x29.3mm, Pitch 1.27mm, IPC High Density)
footprint J83_M (Leaded Chip Carrier, 84-Leads, Body 29.3x29.3mm, Pitch 1.27mm, IPC Low Density)
3D model CY7C341-J83 (84-Pin Plastic Leaded Chip Carrier 1.27 mm Pitch)
pins: 1 INPUT/CLK (in), 2 INPUT (in), 3 VCC (power), 4 I/O (io), 5 I/O (io), 6 I/O (io), 7 I/O (io), 8 I/O (io), 9 I/O (io), 10 I/O (io), 11 I/O (io), 12 I/O (io), 13 I/O (io), 14 I/O (io), 15 I/O (io), 16 I/O (io), 17 I/O (io), 18 GND (power), 19 GND (power), 20 I/O (io), 21 I/O (io), 22 I/O (io), 23 I/O (io), 24 VCC (power), 25 I/O (io), 26 I/O (io), 27 I/O (io), 28 I/O (io), 29 I/O (io), 30 I/O (io), 31 I/O (io), 32 I/O (io), 33 I/O (io), 34 I/O (io), 35 I/O (io), 36 I/O (io), 37 I/O (io), 38 I/O (io), 39 GND (power), 40 GND (power), 41 INPUT (in), 42 INPUT (in), 43 INPUT (in), 44 INPUT (in), 45 VCC (power), 46 I/O (io), 47 I/O (io), 48 I/O (io), 49 I/O (io), 50 I/O (io), 51 I/O (io), 52 I/O (io), 53 I/O (io), 54 I/O (io), 55 I/O (io), 56 I/O (io), 57 I/O (io), 58 I/O (io), 59 I/O (io), 60 GND (power), 61 GND (power), 62 I/O (io), 63 I/O (io), 64 I/O (io), 65 I/O (io), 66 VCC (power), 67 I/O (io), 68 I/O (io), 69 I/O (io), 70 I/O (io), 71 I/O (io), 72 I/O (io), 73 I/O (io), 74 I/O (io), 75 I/O (io), 76 I/O (io), 77 I/O (io), 78 I/O (io), 79 I/O (io), 80 I/O (io), 81 GND (power), 82 GND (power), 83 INPUT (in), 84 INPUT (in)

## CY7C341-35RC
designator U?
192-Macrocell MAX EPLD; Published: 11-Dec-2002; LatestRevisionDate: 04-Mar-2005; LatestRevisionNote: Stylized 3D Model Added.; DatasheetVersion: 19-Jul-2000; PackageVersion: Dec-2001; PackageReference: R84; Publisher: Altium Limited; PackageDescription: 84-Pin Ceramic Window Pin Grid Array 2.54 mm Pitch; ComponentLink1Description: Manufacturer Link; ComponentLink1URL: http://www.cypress.com/
footprint R84 (PGA, 84-Leads, Body 28x28mm, Pitch 2.54mm)
3D model CY7C341-R84 (84-Pin Ceramic Window Pin Grid Array 2.54 mm Pitch)
pins: A1 I/O (io), A2 I/O (io), A3 I/O (io), A4 I/O (io), A5 INPUT (in), A6 INPUT/CLK (in), A7 GND (power), A8 I/O (io), A9 I/O (io), A10 I/O (io), A11 I/O (io), B1 I/O (io), B2 I/O (io), B3 I/O (io), B4 I/O (io), B5 VCC (power), B6 I/O (io), B7 GND (power), B8 I/O (io), B9 I/O (io), B10 I/O (io), B11 I/O (io), C1 I/O (io), C2 I/O (io), C5 I/O (io), C6 INPUT (in), C7 INPUT (in), C10 I/O (io), C11 I/O (io), D1 I/O (io), D2 I/O (io), D10 I/O (io), D11 I/O (io), E1 GND (power), E2 GND (power), E3 I/O (io), E9 I/O (io), E10 VCC (power), E11 I/O (io), F1 I/O (io), F2 I/O (io), F3 I/O (io), F9 I/O (io), F10 I/O (io), F11 I/O (io), G1 I/O (io), G2 VCC (power), G3 I/O (io), G9 I/O (io), G10 GND (power), G11 GND (power), H1 I/O (io), H2 I/O (io), H10 I/O (io), H11 I/O (io), J1 I/O (io), J2 I/O (io), J5 I/O (io), J6 INPUT (in), J7 INPUT (in), J10 I/O (io), J11 I/O (io), K1 I/O (io), K2 I/O (io), K3 I/O (io), K4 I/O (io), K5 GND (power), K6 INPUT (in), K7 VCC (power), K8 I/O (io), K9 I/O (io), K10 I/O (io), K11 I/O (io), L1 I/O (io), L2 I/O (io), L3 I/O (io), L4 I/O (io), L5 GND (power), L6 I/O (io), L7 INPUT (io), L8 I/O (io), L9 I/O (io), L10 I/O (io), L11 I/O (io)

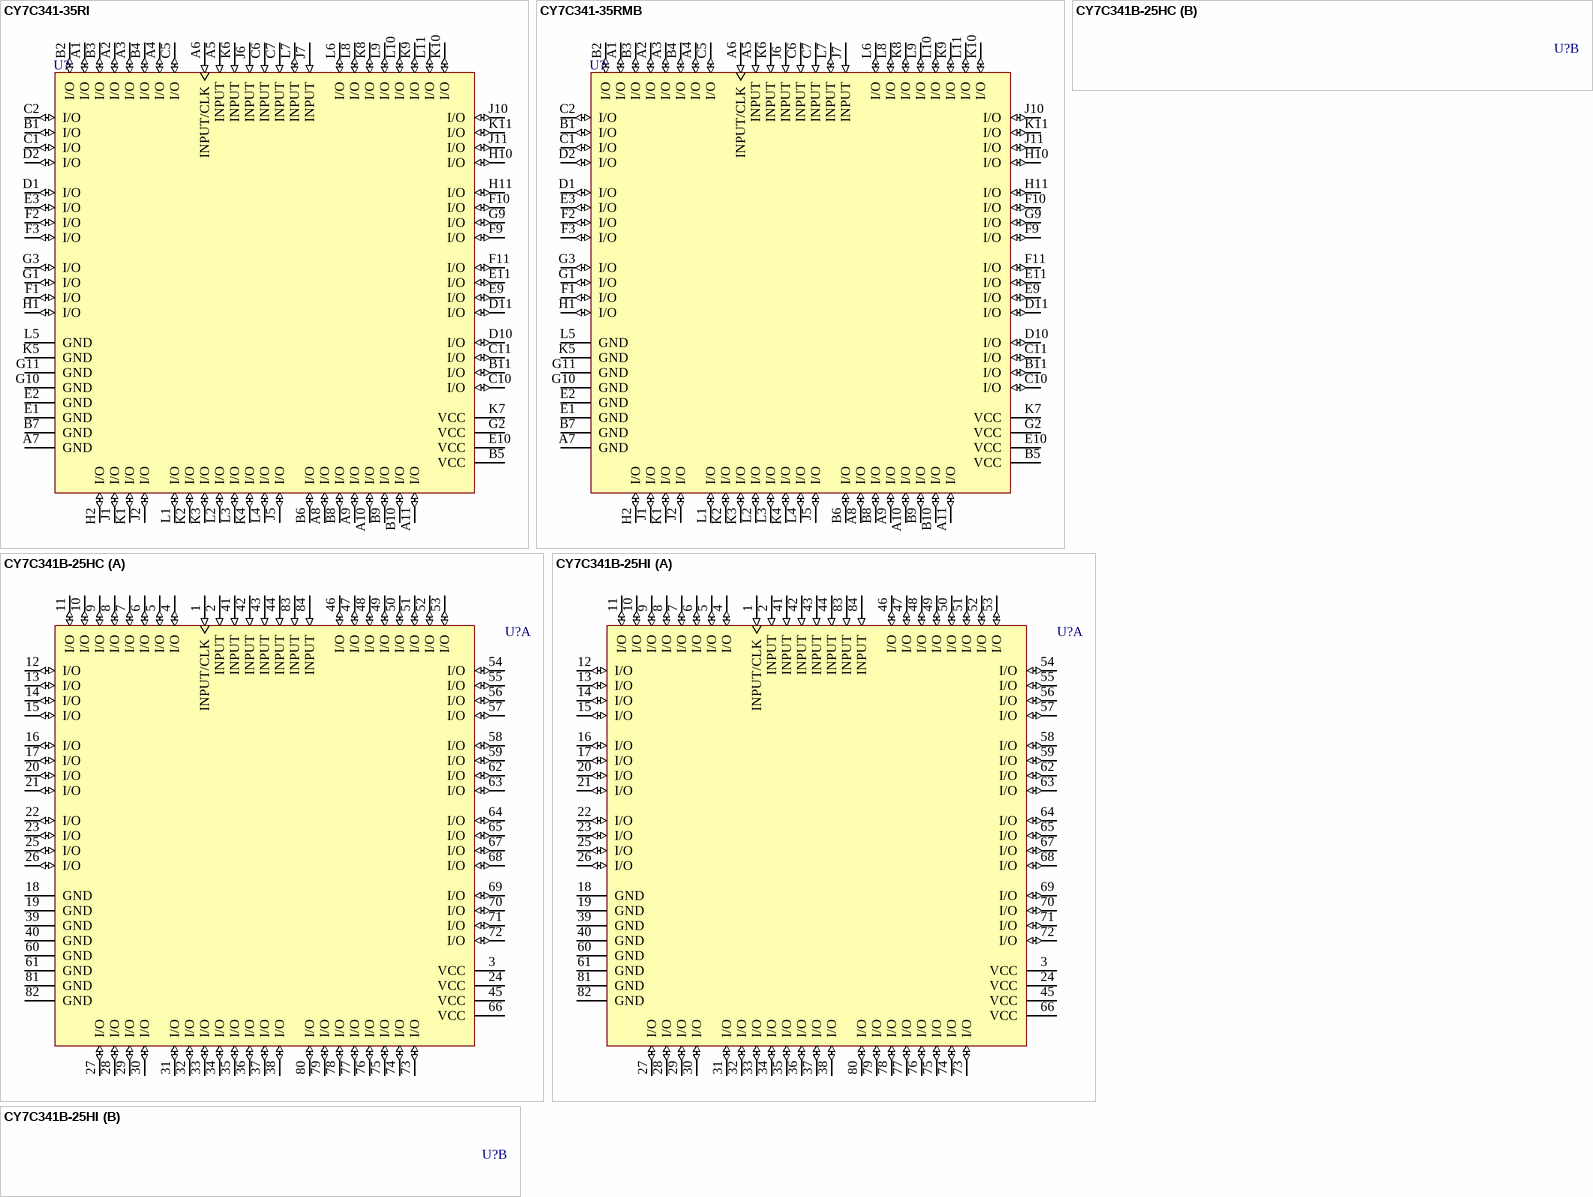
[diagram p5: symbols CY7C341-35RI to CY7C341B-25HI]

## CY7C341-35RI
designator U?
192-Macrocell MAX EPLD; Published: 11-Dec-2002; LatestRevisionDate: 04-Mar-2005; LatestRevisionNote: Stylized 3D Model Added.; DatasheetVersion: 19-Jul-2000; PackageVersion: Dec-2001; PackageReference: R84; Publisher: Altium Limited; PackageDescription: 84-Pin Ceramic Window Pin Grid Array 2.54 mm Pitch; ComponentLink1Description: Manufacturer Link; ComponentLink1URL: http://www.cypress.com/
footprint R84 (PGA, 84-Leads, Body 28x28mm, Pitch 2.54mm)
3D model CY7C341-R84 (84-Pin Ceramic Window Pin Grid Array 2.54 mm Pitch)
pins: A1 I/O (io), A2 I/O (io), A3 I/O (io), A4 I/O (io), A5 INPUT (in), A6 INPUT/CLK (in), A7 GND (power), A8 I/O (io), A9 I/O (io), A10 I/O (io), A11 I/O (io), B1 I/O (io), B2 I/O (io), B3 I/O (io), B4 I/O (io), B5 VCC (power), B6 I/O (io), B7 GND (power), B8 I/O (io), B9 I/O (io), B10 I/O (io), B11 I/O (io), C1 I/O (io), C2 I/O (io), C5 I/O (io), C6 INPUT (in), C7 INPUT (in), C10 I/O (io), C11 I/O (io), D1 I/O (io), D2 I/O (io), D10 I/O (io), D11 I/O (io), E1 GND (power), E2 GND (power), E3 I/O (io), E9 I/O (io), E10 VCC (power), E11 I/O (io), F1 I/O (io), F2 I/O (io), F3 I/O (io), F9 I/O (io), F10 I/O (io), F11 I/O (io), G1 I/O (io), G2 VCC (power), G3 I/O (io), G9 I/O (io), G10 GND (power), G11 GND (power), H1 I/O (io), H2 I/O (io), H10 I/O (io), H11 I/O (io), J1 I/O (io), J2 I/O (io), J5 I/O (io), J6 INPUT (in), J7 INPUT (in), J10 I/O (io), J11 I/O (io), K1 I/O (io), K2 I/O (io), K3 I/O (io), K4 I/O (io), K5 GND (power), K6 INPUT (in), K7 VCC (power), K8 I/O (io), K9 I/O (io), K10 I/O (io), K11 I/O (io), L1 I/O (io), L2 I/O (io), L3 I/O (io), L4 I/O (io), L5 GND (power), L6 I/O (io), L7 INPUT (io), L8 I/O (io), L9 I/O (io), L10 I/O (io), L11 I/O (io)

## CY7C341-35RMB
designator U?
192-Macrocell MAX EPLD; Published: 11-Dec-2002; LatestRevisionDate: 04-Mar-2005; LatestRevisionNote: Stylized 3D Model Added.; DatasheetVersion: 19-Jul-2000; PackageVersion: Dec-2001; PackageReference: R84; Publisher: Altium Limited; PackageDescription: 84-Pin Ceramic Window Pin Grid Array 2.54 mm Pitch; ComponentLink1Description: Manufacturer Link; ComponentLink1URL: http://www.cypress.com/
footprint R84 (PGA, 84-Leads, Body 28x28mm, Pitch 2.54mm)
3D model CY7C341-R84 (84-Pin Ceramic Window Pin Grid Array 2.54 mm Pitch)
pins: A1 I/O (io), A2 I/O (io), A3 I/O (io), A4 I/O (io), A5 INPUT (in), A6 INPUT/CLK (in), A7 GND (power), A8 I/O (io), A9 I/O (io), A10 I/O (io), A11 I/O (io), B1 I/O (io), B2 I/O (io), B3 I/O (io), B4 I/O (io), B5 VCC (power), B6 I/O (io), B7 GND (power), B8 I/O (io), B9 I/O (io), B10 I/O (io), B11 I/O (io), C1 I/O (io), C2 I/O (io), C5 I/O (io), C6 INPUT (in), C7 INPUT (in), C10 I/O (io), C11 I/O (io), D1 I/O (io), D2 I/O (io), D10 I/O (io), D11 I/O (io), E1 GND (power), E2 GND (power), E3 I/O (io), E9 I/O (io), E10 VCC (power), E11 I/O (io), F1 I/O (io), F2 I/O (io), F3 I/O (io), F9 I/O (io), F10 I/O (io), F11 I/O (io), G1 I/O (io), G2 VCC (power), G3 I/O (io), G9 I/O (io), G10 GND (power), G11 GND (power), H1 I/O (io), H2 I/O (io), H10 I/O (io), H11 I/O (io), J1 I/O (io), J2 I/O (io), J5 I/O (io), J6 INPUT (in), J7 INPUT (in), J10 I/O (io), J11 I/O (io), K1 I/O (io), K2 I/O (io), K3 I/O (io), K4 I/O (io), K5 GND (power), K6 INPUT (in), K7 VCC (power), K8 I/O (io), K9 I/O (io), K10 I/O (io), K11 I/O (io), L1 I/O (io), L2 I/O (io), L3 I/O (io), L4 I/O (io), L5 GND (power), L6 I/O (io), L7 INPUT (io), L8 I/O (io), L9 I/O (io), L10 I/O (io), L11 I/O (io)

## CY7C341B-25HC
designator U?
192-Macrocell MAX EPLD; Published: 11-Dec-2002; LatestRevisionDate: 13-Apr-2006; LatestRevisionNote: IPC-7351 Footprint Added.; DatasheetVersion: 9-Dec-1999; PackageVersion: 8-Apr-2002; PackageReference: H84; Publisher: Altium Limited; PackageDescription: 84-Pin Window Leaded Chip Carrier 1.27 mm Pitch; ComponentLink1Description: Manufacturer Link; ComponentLink1URL: http://www.cypress.com/; ComponentLink2Description: Datasheet; ComponentLink2URL: http://www.cypress.com/portal/server.pt/gateway/PTARGS_0_2_1524_209_259_43/http%3B/sjapp20.mis.cypress.com%3B7001/publishedcontent/publish/design_resources/datasheets/contents/cy7c341_5.pdf
footprint H84_N (Leaded Chip Carrier, 84-Leads, Body 29.2x29.2mm, Pitch 1.27mm, IPC Medium Density)
footprint H84_L (Leaded Chip Carrier, 84-Leads, Body 29.2x29.2mm, Pitch 1.27mm, IPC High Density)
footprint H84_M (Leaded Chip Carrier, 84-Leads, Body 29.2x29.2mm, Pitch 1.27mm, IPC Low Density)
3D model CY7C341B-H84 (84-Pin Window Leaded Chip Carrier 1.27 mm Pitch)
part A pins: 1 INPUT/CLK (in), 2 INPUT (in), 3 VCC (power), 4 I/O (io), 5 I/O (io), 6 I/O (io), 7 I/O (io), 8 I/O (io), 9 I/O (io), 10 I/O (io), 11 I/O (io), 12 I/O (io), 13 I/O (io), 14 I/O (io), 15 I/O (io), 16 I/O (io), 17 I/O (io), 18 GND (power), 19 GND (power), 20 I/O (io), 21 I/O (io), 22 I/O (io), 23 I/O (io), 24 VCC (power), 25 I/O (io), 26 I/O (io), 27 I/O (io), 28 I/O (io), 29 I/O (io), 30 I/O (io), 31 I/O (io), 32 I/O (io), 33 I/O (io), 34 I/O (io), 35 I/O (io), 36 I/O (io), 37 I/O (io), 38 I/O (io), 39 GND (power), 40 GND (power), 41 INPUT (in), 42 INPUT (in), 43 INPUT (in), 44 INPUT (in), 45 VCC (power), 46 I/O (io), 47 I/O (io), 48 I/O (io), 49 I/O (io), 50 I/O (io), 51 I/O (io), 52 I/O (io), 53 I/O (io), 54 I/O (io), 55 I/O (io), 56 I/O (io), 57 I/O (io), 58 I/O (io), 59 I/O (io), 60 GND (power), 61 GND (power), 62 I/O (io), 63 I/O (io), 64 I/O (io), 65 I/O (io), 66 VCC (power), 67 I/O (io), 68 I/O (io), 69 I/O (io), 70 I/O (io), 71 I/O (io), 72 I/O (io), 73 I/O (io), 74 I/O (io), 75 I/O (io), 76 I/O (io), 77 I/O (io), 78 I/O (io), 79 I/O (io), 80 I/O (io), 81 GND (power), 82 GND (power), 83 INPUT (in), 84 INPUT (in)

## CY7C341B-25HI
designator U?
192-Macrocell MAX EPLD; Published: 11-Dec-2002; LatestRevisionDate: 13-Apr-2006; LatestRevisionNote: IPC-7351 Footprint Added.; DatasheetVersion: 9-Dec-1999; PackageVersion: 8-Apr-2002; PackageReference: H84; Publisher: Altium Limited; PackageDescription: 84-Pin Window Leaded Chip Carrier 1.27 mm Pitch; ComponentLink1Description: Manufacturer Link; ComponentLink1URL: http://www.cypress.com/; ComponentLink2Description: Datasheet; ComponentLink2URL: http://www.cypress.com/portal/server.pt/gateway/PTARGS_0_2_1524_209_259_43/http%3B/sjapp20.mis.cypress.com%3B7001/publishedcontent/publish/design_resources/datasheets/contents/cy7c341_5.pdf
footprint H84_N (Leaded Chip Carrier, 84-Leads, Body 29.2x29.2mm, Pitch 1.27mm, IPC Medium Density)
footprint H84_L (Leaded Chip Carrier, 84-Leads, Body 29.2x29.2mm, Pitch 1.27mm, IPC High Density)
footprint H84_M (Leaded Chip Carrier, 84-Leads, Body 29.2x29.2mm, Pitch 1.27mm, IPC Low Density)
3D model CY7C341B-H84 (84-Pin Window Leaded Chip Carrier 1.27 mm Pitch)
part A pins: 1 INPUT/CLK (in), 2 INPUT (in), 3 VCC (power), 4 I/O (io), 5 I/O (io), 6 I/O (io), 7 I/O (io), 8 I/O (io), 9 I/O (io), 10 I/O (io), 11 I/O (io), 12 I/O (io), 13 I/O (io), 14 I/O (io), 15 I/O (io), 16 I/O (io), 17 I/O (io), 18 GND (power), 19 GND (power), 20 I/O (io), 21 I/O (io), 22 I/O (io), 23 I/O (io), 24 VCC (power), 25 I/O (io), 26 I/O (io), 27 I/O (io), 28 I/O (io), 29 I/O (io), 30 I/O (io), 31 I/O (io), 32 I/O (io), 33 I/O (io), 34 I/O (io), 35 I/O (io), 36 I/O (io), 37 I/O (io), 38 I/O (io), 39 GND (power), 40 GND (power), 41 INPUT (in), 42 INPUT (in), 43 INPUT (in), 44 INPUT (in), 45 VCC (power), 46 I/O (io), 47 I/O (io), 48 I/O (io), 49 I/O (io), 50 I/O (io), 51 I/O (io), 52 I/O (io), 53 I/O (io), 54 I/O (io), 55 I/O (io), 56 I/O (io), 57 I/O (io), 58 I/O (io), 59 I/O (io), 60 GND (power), 61 GND (power), 62 I/O (io), 63 I/O (io), 64 I/O (io), 65 I/O (io), 66 VCC (power), 67 I/O (io), 68 I/O (io), 69 I/O (io), 70 I/O (io), 71 I/O (io), 72 I/O (io), 73 I/O (io), 74 I/O (io), 75 I/O (io), 76 I/O (io), 77 I/O (io), 78 I/O (io), 79 I/O (io), 80 I/O (io), 81 GND (power), 82 GND (power), 83 INPUT (in), 84 INPUT (in)

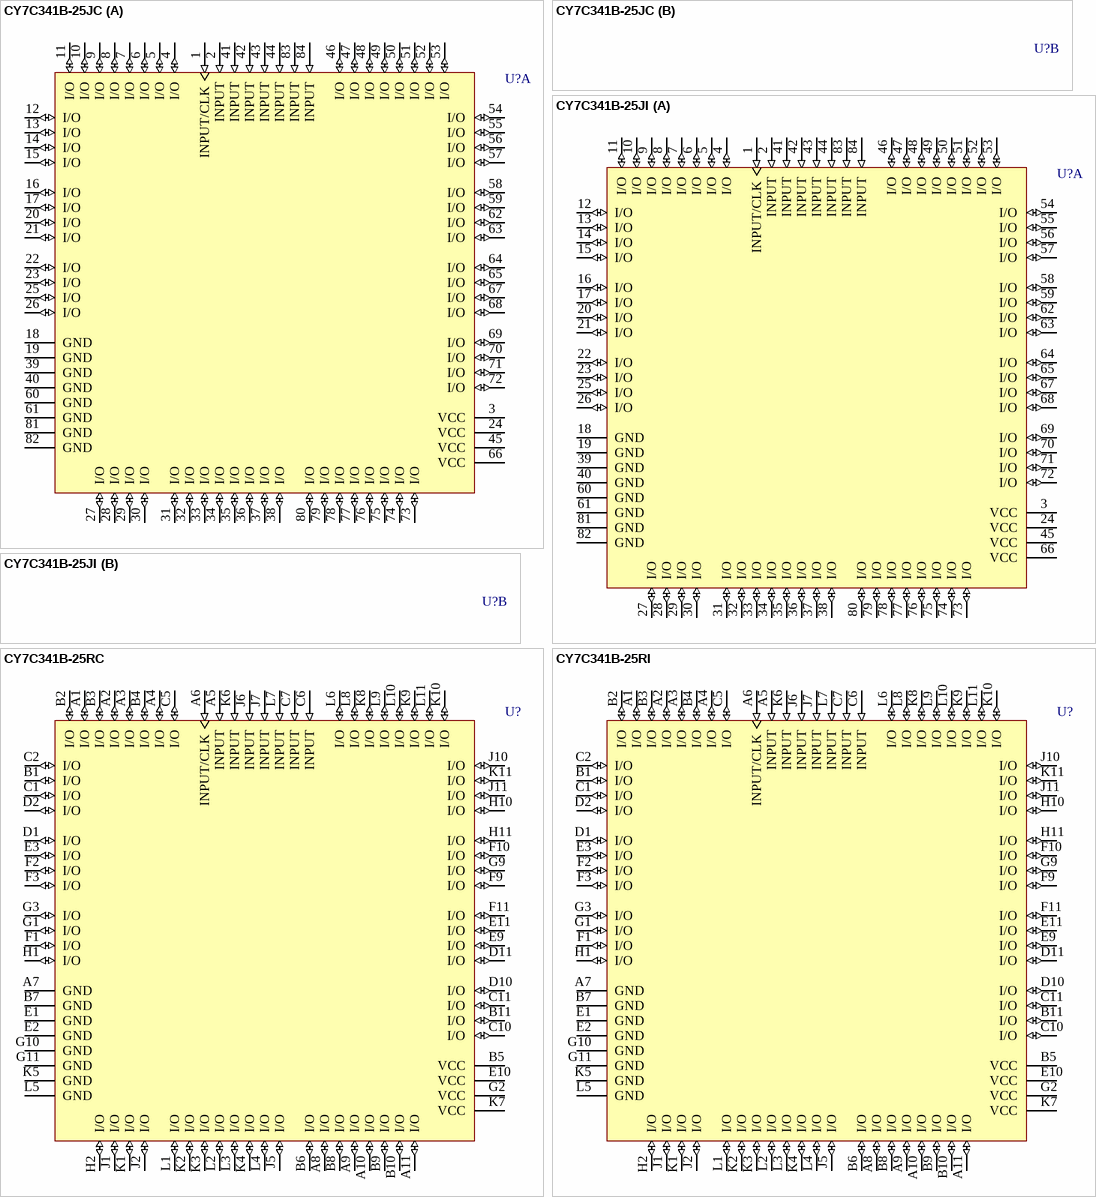
[diagram p6: symbols CY7C341B-25JC to CY7C341B-25RI]

## CY7C341B-25JC
designator U?
192-Macrocell MAX EPLD; Published: 11-Dec-2002; LatestRevisionDate: 13-Apr-2006; LatestRevisionNote: IPC-7351 Footprint Added.; DatasheetVersion: 9-Dec-1999; PackageVersion: Mar-2001; PackageReference: J83; Publisher: Altium Limited; PackageDescription: 84-Pin Plastic Leaded Chip Carrier 1.27 mm Pitch; Code_IPC: PLCC-84; ComponentLink1Description: Manufacturer Link; ComponentLink1URL: http://www.cypress.com/; ComponentLink2Description: Datasheet; ComponentLink2URL: http://www.cypress.com/portal/server.pt/gateway/PTARGS_0_2_1524_209_259_43/http%3B/sjapp20.mis.cypress.com%3B7001/publishedcontent/publish/design_resources/datasheets/contents/cy7c341_5.pdf
footprint J83_N (Leaded Chip Carrier, 84-Leads, Body 29.3x29.3mm, Pitch 1.27mm, IPC Medium Density)
footprint J83_L (Leaded Chip Carrier, 84-Leads, Body 29.3x29.3mm, Pitch 1.27mm, IPC High Density)
footprint J83_M (Leaded Chip Carrier, 84-Leads, Body 29.3x29.3mm, Pitch 1.27mm, IPC Low Density)
3D model CY7C341B-J83 (84-Pin Plastic Leaded Chip Carrier 1.27 mm Pitch)
part A pins: 1 INPUT/CLK (in), 2 INPUT (in), 3 VCC (power), 4 I/O (io), 5 I/O (io), 6 I/O (io), 7 I/O (io), 8 I/O (io), 9 I/O (io), 10 I/O (io), 11 I/O (io), 12 I/O (io), 13 I/O (io), 14 I/O (io), 15 I/O (io), 16 I/O (io), 17 I/O (io), 18 GND (power), 19 GND (power), 20 I/O (io), 21 I/O (io), 22 I/O (io), 23 I/O (io), 24 VCC (power), 25 I/O (io), 26 I/O (io), 27 I/O (io), 28 I/O (io), 29 I/O (io), 30 I/O (io), 31 I/O (io), 32 I/O (io), 33 I/O (io), 34 I/O (io), 35 I/O (io), 36 I/O (io), 37 I/O (io), 38 I/O (io), 39 GND (power), 40 GND (power), 41 INPUT (in), 42 INPUT (in), 43 INPUT (in), 44 INPUT (in), 45 VCC (power), 46 I/O (io), 47 I/O (io), 48 I/O (io), 49 I/O (io), 50 I/O (io), 51 I/O (io), 52 I/O (io), 53 I/O (io), 54 I/O (io), 55 I/O (io), 56 I/O (io), 57 I/O (io), 58 I/O (io), 59 I/O (io), 60 GND (power), 61 GND (power), 62 I/O (io), 63 I/O (io), 64 I/O (io), 65 I/O (io), 66 VCC (power), 67 I/O (io), 68 I/O (io), 69 I/O (io), 70 I/O (io), 71 I/O (io), 72 I/O (io), 73 I/O (io), 74 I/O (io), 75 I/O (io), 76 I/O (io), 77 I/O (io), 78 I/O (io), 79 I/O (io), 80 I/O (io), 81 GND (power), 82 GND (power), 83 INPUT (in), 84 INPUT (in)